# Altium footprint library MF-TRANSISTORS.PcbLib: 1 footprints
Each footprint in its own frame and in the unit in brackets; x right, y up, seen from the top. Pads: shape width x height; smd on the part's side, far side on the other; paste and mask are expansions set on the pad; w line width, h text height; cw(c..) or ccw(c..) is an arc to the next point about the centre after c.
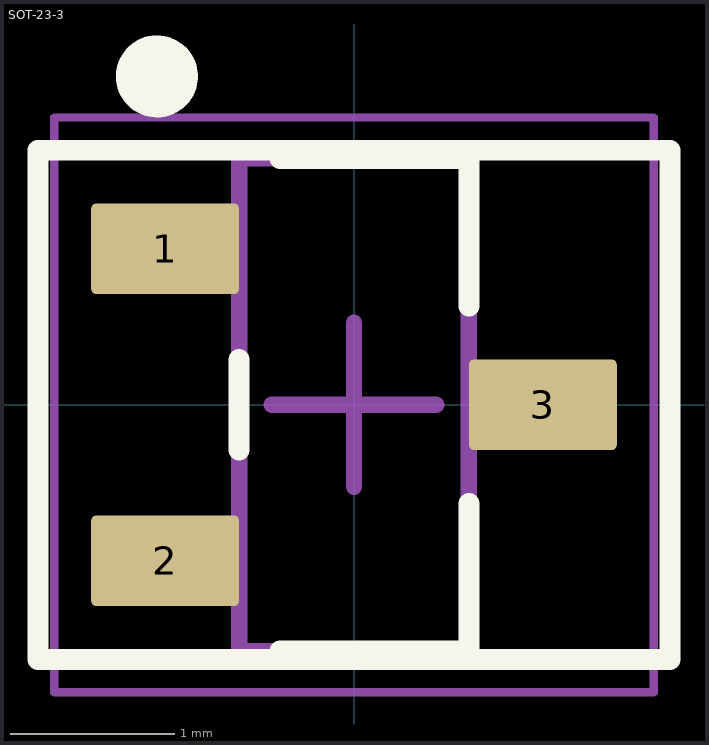
[diagram p0: the footprint, top view; thin cyan lines are the x and y axes]

## SOT-23-3 [mm] "SOT23, 3-Leads, Body 2.90x2.35mm, Pitch 0.95mm, IPC Medium Density"
height 1.1
pads (3):
  rrect10% 0.9x0.55 smd mask+0.07: 1(-1.15,0.95) 2(-1.15,-0.95) 3(1.15,0)
Top Overlay:
  circle w0.25: c-1.2,2 r0.125
  lines w0.127: -0.7,-0.275 -0.7,0.275 ; -0.45,-1.5 0.7,-1.5 0.7,-0.6 ; -0.45,1.5 0.7,1.5 0.7,0.6 ; -1.925,-1.55 -1.925,1.55 1.925,1.55 1.925,-1.55 -1.925,-1.55
Top Assembly:
  lines w0.1: -0.7,-1.5 -0.7,1.5 0.7,1.5 0.7,-1.5 -0.7,-1.5
Top Courtyard:
  lines w0.05: -1.825,-1.75 -1.825,1.75 1.825,1.75 1.825,-1.75 -1.825,-1.75
  lines w0.1: -0.5,0 0.5,0 ; 0,-0.5 0,0.5
3D body "SOT-23.step": height 1.1, standoff 0, extent -1.2,-1.5 1.2,1.5